# Altium footprint library WT32-S1.PcbLib: 1 footprints
Each footprint in its own frame and in the unit in brackets; x right, y up, seen from the top. Pads: shape width x height; smd on the part's side, far side on the other; paste and mask are expansions set on the pad; w line width, h text height; cw(c..) or ccw(c..) is an arc to the next point about the centre after c.
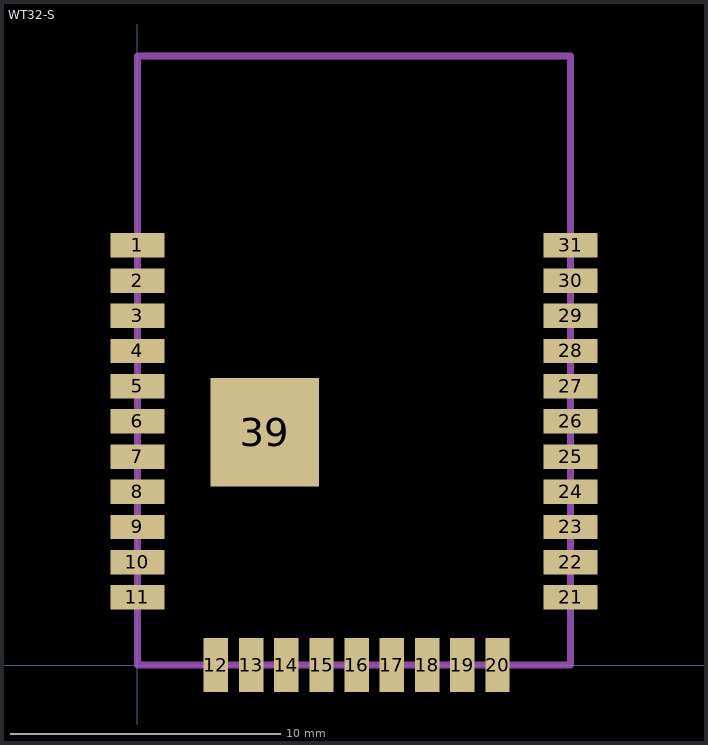
[diagram p0: the footprint, top view; thin cyan lines are the x and y axes]

## WT32-S [mm] "WT32-S"
pads (32):
  rect 2x0.9 smd: 1(0,15.5) 2(0,14.2) 3(0,12.9) 4(0,11.6) 5(0,10.3) 6(0,9) 7(0,7.7) 8(0,6.4) 9(0,5.1) 10(0,3.8) 11(0,2.5) 21(16,2.5) 22(16,3.8) 23(16,5.1) 24(16,6.4) 25(16,7.7) 26(16,9) 27(16,10.3) 28(16,11.6) 29(16,12.9) 30(16,14.2) 31(16,15.5)
  rect 0.9x2 smd: 12(2.9,0) 13(4.2,0) 14(5.5,0) 15(6.8,0) 16(8.1,0) 17(9.4,0) 18(10.7,0) 19(12,0) 20(13.3,0)
  rect 4x4 smd: 39(4.7,8.6)
Mechanical 1:
  lines w0.254: 0,0 16,0 16,22.5 0,22.5 0,0